# Altium footprint library SS54.PcbLib: 1 footprints
Each footprint in its own frame and in the unit in brackets; x right, y up, seen from the top. Pads: shape width x height; smd on the part's side, far side on the other; paste and mask are expansions set on the pad; w line width, h text height; cw(c..) or ccw(c..) is an arc to the next point about the centre after c.
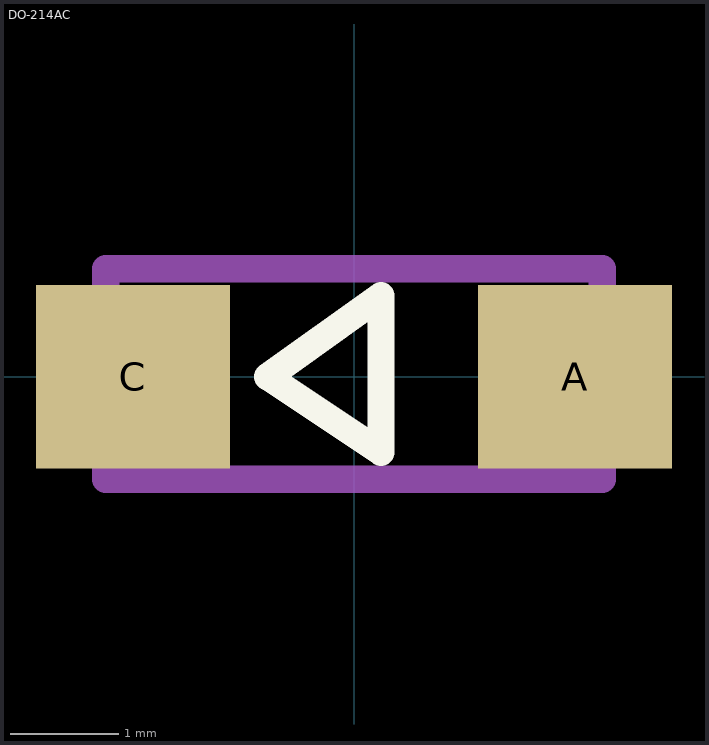
[diagram p0: the footprint, top view; thin cyan lines are the x and y axes]

## DO-214AC [mm]
pads (2):
  rect 1.8x1.7 smd: A(2.05,0) C(-2.05,0)
Top Overlay:
  lines w0.254: -0.8,0 0.25,0.75 0.25,-0.7 -0.8,0
Mechanical 13:
  lines w0.254: -2.3,-0.95 2.3,-0.95 2.3,1 -2.3,1 -2.3,-0.95